# Altium integrated library NSC MiscPower.IntLib: 742 symbols (part 3 of 19)
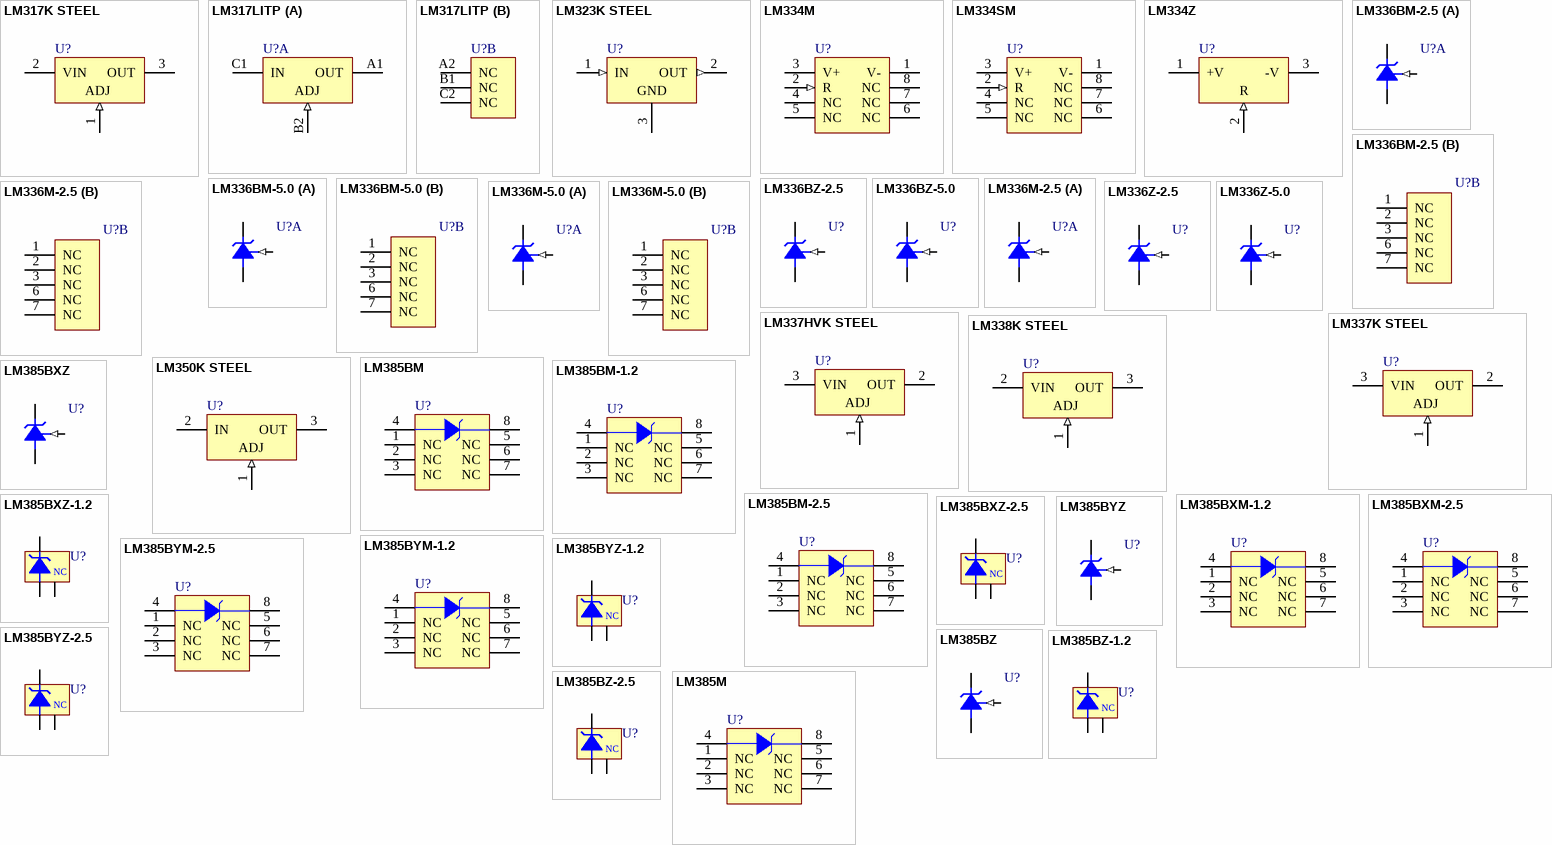
[diagram p27: symbols LM317K STEEL to LM385M]

## LM385BXZ
designator U?
Adjustable Micropower Voltage Reference; PartNumber: LM385BXZ; Manufacturer: National Semiconductor; CompType: MiscPower; PackageTopMarking: NSXYTT*LM385*BXZ; PowerWise: N; Published: 4-Dec-2008; DatasheetVersion: Jan-2008; PackageVersion: revG, Sep-2000; PackageReference: Z03A; Publisher: Altium Limited; PackageDescription: TO-92, Molded, 3 Lead; RoHS: Y; PinCount: 3; DigiKeyPartNumber: LM385BXZ-ND; Code_JEDEC: TO-226-AA; ComponentLink1Description: LM385-ADJ Datasheet; ComponentLink1URL: http://www.national.com/ds/LM/LM185-ADJ.pdf; ComponentLink2Description: LM385-ADJ Web Page; ComponentLink2URL: http://www.national.com/pf/LM/LM385-ADJ.html; ComponentLink3Description: Z03A Package Page; ComponentLink3URL: http://www.national.com/packaging/folders/z03a.html
footprint Z03A (TO, Flat Index; 3 In-Line, Axial Leads; Body Dia. 5mm; Leads 0.55 x 0.50 mm (max))
pins: 1 FB (in), 2 +V, 3 -V

## LM385BXZ-1.2
designator U?
Micropower Voltage Reference Diode; PartNumber: LM385BXZ-1.2; Manufacturer: National Semiconductor; CompType: MiscPower; PackageTopMarking: NSXYTT*385BX*Z-1.2; PowerWise: N; Published: 4-Dec-2008; DatasheetVersion: Jan-2008; PackageVersion: revG, Sep-2000; PackageReference: Z03A; Publisher: Altium Limited; PackageDescription: TO-92, Molded, 3 Lead; RoHS: Y; PinCount: 3; DigiKeyPartNumber: LM385BXZ-1.2-ND; Code_JEDEC: TO-226-AA; ComponentLink1Description: LM385-1.2 Datasheet; ComponentLink1URL: http://www.national.com/ds/LM/LM185-1.2.pdf; ComponentLink2Description: LM385-1.2 Web Page; ComponentLink2URL: http://www.national.com/pf/LM/LM385-1.2.html; ComponentLink3Description: Z03A Package Page; ComponentLink3URL: http://www.national.com/packaging/folders/z03a.html
footprint Z03A (TO, Flat Index; 3 In-Line, Axial Leads; Body Dia. 5mm; Leads 0.55 x 0.50 mm (max))
pins: 1 NC, 2 V+, 3 V-

## LM385BXZ-2.5
designator U?
Micropower Voltage Reference Diode; PartNumber: LM385BXZ-2.5; Manufacturer: National Semiconductor; CompType: MiscPower; PackageTopMarking: NSXYTT*385BX*Z-2.5; PowerWise: N; Published: 4-Dec-2008; DatasheetVersion: Jan-2008; PackageVersion: revG, Sep-2000; PackageReference: Z03A; Publisher: Altium Limited; PackageDescription: TO-92, Molded, 3 Lead; RoHS: O; PinCount: 3; DigiKeyPartNumber: LM385BXZ-2.5-ND; Code_JEDEC: TO-226-AA; ComponentLink1Description: LM385-2.5 Datasheet; ComponentLink1URL: http://www.national.com/ds/LM/LM185-2.5.pdf; ComponentLink2Description: LM385-2.5 Web Page; ComponentLink2URL: http://www.national.com/pf/LM/LM385-2.5.html; ComponentLink3Description: Z03A Package Page; ComponentLink3URL: http://www.national.com/packaging/folders/z03a.html
footprint Z03A (TO, Flat Index; 3 In-Line, Axial Leads; Body Dia. 5mm; Leads 0.55 x 0.50 mm (max))
pins: 1 NC, 2 V+, 3 V-

## LM385BYM-1.2
designator U?
Micropower Voltage Reference Diode; PartNumber: LM385BYM-1.2; Manufacturer: National Semiconductor; CompType: MiscPower; PackageTopMarking: NSZXTT*385BY*M1.2; PowerWise: N; Published: 4-Dec-2008; DatasheetVersion: Jan-2008; PackageVersion: revL, Sep-2006; PackageReference: M08A; Publisher: Altium Limited; PackageDescription: SOIC Narrow, 4.9 x 3.9 x 1.45mm, 8 Lead, 1.27mm Pitch; RoHS: Y; PinCount: 8; DigiKeyPartNumber: LM385BYM-1.2-ND; Code_JEDEC: MS-012-AA; Code_IPC: SOIC127P600-8; ComponentLink1Description: LM385-1.2 Datasheet; ComponentLink1URL: http://www.national.com/ds/LM/LM185-1.2.pdf; ComponentLink2Description: LM385-1.2 Web Page; ComponentLink2URL: http://www.national.com/pf/LM/LM385-1.2.html; ComponentLink3Description: M08A Package Page; ComponentLink3URL: http://www.national.com/packaging/folders/m08a.html
footprint M08A_N (SOIC, 8-Leads, Body 4.9x3.9mm, Pitch 1.27mm, IPC Medium Density)
footprint M08A_L (SOIC, 8-Leads, Body 4.9x3.9mm, Pitch 1.27mm, IPC High Density)
footprint M08A_M (SOIC, 8-Leads, Body 4.9x3.9mm, Pitch 1.27mm, IPC Low Density)
pins: 1 NC, 2 NC, 3 NC, 4 A, 5 NC, 6 NC, 7 NC, 8 K

## LM385BYM-2.5
designator U?
Micropower Voltage Reference Diode; PartNumber: LM385BYM-2.5; Manufacturer: National Semiconductor; CompType: MiscPower; PackageTopMarking: NSZXTT*385BY*M2.5; PowerWise: N; Published: 4-Dec-2008; DatasheetVersion: Jan-2008; PackageVersion: revL, Sep-2006; PackageReference: M08A; Publisher: Altium Limited; PackageDescription: SOIC Narrow, 4.9 x 3.9 x 1.45mm, 8 Lead, 1.27mm Pitch; RoHS: Y; PinCount: 8; DigiKeyPartNumber: LM385BYM-2.5-ND; Code_JEDEC: MS-012-AA; Code_IPC: SOIC127P600-8; ComponentLink1Description: LM385-2.5 Datasheet; ComponentLink1URL: http://www.national.com/ds/LM/LM185-2.5.pdf; ComponentLink2Description: LM385-2.5 Web Page; ComponentLink2URL: http://www.national.com/pf/LM/LM385-2.5.html; ComponentLink3Description: M08A Package Page; ComponentLink3URL: http://www.national.com/packaging/folders/m08a.html
footprint M08A_N (SOIC, 8-Leads, Body 4.9x3.9mm, Pitch 1.27mm, IPC Medium Density)
footprint M08A_L (SOIC, 8-Leads, Body 4.9x3.9mm, Pitch 1.27mm, IPC High Density)
footprint M08A_M (SOIC, 8-Leads, Body 4.9x3.9mm, Pitch 1.27mm, IPC Low Density)
pins: 1 NC, 2 NC, 3 NC, 4 A, 5 NC, 6 NC, 7 NC, 8 K

## LM385BYZ
designator U?
Adjustable Micropower Voltage Reference; PartNumber: LM385BYZ; Manufacturer: National Semiconductor; CompType: MiscPower; PackageTopMarking: NSXYTT*LM385*BYZ; PowerWise: N; Published: 4-Dec-2008; DatasheetVersion: Jan-2008; PackageVersion: revG, Sep-2000; PackageReference: Z03A; Publisher: Altium Limited; PackageDescription: TO-92, Molded, 3 Lead; RoHS: Y; PinCount: 3; DigiKeyPartNumber: LM385BYZ-ND; Code_JEDEC: TO-226-AA; ComponentLink1Description: LM385-ADJ Datasheet; ComponentLink1URL: http://www.national.com/ds/LM/LM185-ADJ.pdf; ComponentLink2Description: LM385-ADJ Web Page; ComponentLink2URL: http://www.national.com/pf/LM/LM385-ADJ.html; ComponentLink3Description: Z03A Package Page; ComponentLink3URL: http://www.national.com/packaging/folders/z03a.html
footprint Z03A (TO, Flat Index; 3 In-Line, Axial Leads; Body Dia. 5mm; Leads 0.55 x 0.50 mm (max))
pins: 1 FB (in), 2 +V, 3 -V

## LM385BYZ-1.2
designator U?
Micropower Voltage Reference Diode; PartNumber: LM385BYZ-1.2; Manufacturer: National Semiconductor; CompType: MiscPower; PackageTopMarking: NSXYTT*385BY*Z-1.2; PowerWise: N; Published: 4-Dec-2008; DatasheetVersion: Jan-2008; PackageVersion: revG, Sep-2000; PackageReference: Z03A; Publisher: Altium Limited; PackageDescription: TO-92, Molded, 3 Lead; RoHS: Y; PinCount: 3; DigiKeyPartNumber: LM385BYZ-1.2-ND; Code_JEDEC: TO-226-AA; ComponentLink1Description: LM385-1.2 Datasheet; ComponentLink1URL: http://www.national.com/ds/LM/LM185-1.2.pdf; ComponentLink2Description: LM385-1.2 Web Page; ComponentLink2URL: http://www.national.com/pf/LM/LM385-1.2.html; ComponentLink3Description: Z03A Package Page; ComponentLink3URL: http://www.national.com/packaging/folders/z03a.html
footprint Z03A (TO, Flat Index; 3 In-Line, Axial Leads; Body Dia. 5mm; Leads 0.55 x 0.50 mm (max))
pins: 1 NC, 2 V+, 3 V-

## LM385BYZ-2.5
designator U?
Micropower Voltage Reference Diode; PartNumber: LM385BYZ-2.5; Manufacturer: National Semiconductor; CompType: MiscPower; PackageTopMarking: NSXYTT*385BY*Z-2.5; PowerWise: N; Published: 4-Dec-2008; DatasheetVersion: Jan-2008; PackageVersion: revG, Sep-2000; PackageReference: Z03A; Publisher: Altium Limited; PackageDescription: TO-92, Molded, 3 Lead; RoHS: Y; PinCount: 3; DigiKeyPartNumber: LM385BYZ-2.5-ND; Code_JEDEC: TO-226-AA; ComponentLink1Description: LM385-2.5 Datasheet; ComponentLink1URL: http://www.national.com/ds/LM/LM185-2.5.pdf; ComponentLink2Description: LM385-2.5 Web Page; ComponentLink2URL: http://www.national.com/pf/LM/LM385-2.5.html; ComponentLink3Description: Z03A Package Page; ComponentLink3URL: http://www.national.com/packaging/folders/z03a.html
footprint Z03A (TO, Flat Index; 3 In-Line, Axial Leads; Body Dia. 5mm; Leads 0.55 x 0.50 mm (max))
pins: 1 NC, 2 V+, 3 V-

## LM385BZ
designator U?
Adjustable Micropower Voltage Reference; PartNumber: LM385BZ; Manufacturer: National Semiconductor; CompType: MiscPower; PackageTopMarking: NSXYTT*LM385*BZ; PowerWise: N; Published: 4-Dec-2008; DatasheetVersion: Jan-2008; PackageVersion: revG, Sep-2000; PackageReference: Z03A; Publisher: Altium Limited; PackageDescription: TO-92, Molded, 3 Lead; RoHS: Y; PinCount: 3; DigiKeyPartNumber: LM385BZ-ND; Code_JEDEC: TO-226-AA; ComponentLink1Description: LM385-ADJ Datasheet; ComponentLink1URL: http://www.national.com/ds/LM/LM185-ADJ.pdf; ComponentLink2Description: LM385-ADJ Web Page; ComponentLink2URL: http://www.national.com/pf/LM/LM385-ADJ.html; ComponentLink3Description: Z03A Package Page; ComponentLink3URL: http://www.national.com/packaging/folders/z03a.html
footprint Z03A (TO, Flat Index; 3 In-Line, Axial Leads; Body Dia. 5mm; Leads 0.55 x 0.50 mm (max))
pins: 1 FB (in), 2 +V, 3 -V

## LM385BZ-1.2
designator U?
Micropower Voltage Reference Diode; PartNumber: LM385BZ-1.2; Manufacturer: National Semiconductor; CompType: MiscPower; PackageTopMarking: NSXYTT*LM385*BZ1.2; PowerWise: N; Published: 4-Dec-2008; DatasheetVersion: Jan-2008; PackageVersion: revG, Sep-2000; PackageReference: Z03A; Publisher: Altium Limited; PackageDescription: TO-92, Molded, 3 Lead; RoHS: O; PinCount: 3; DigiKeyPartNumber: LM385BZ-1.2NS-ND; Code_JEDEC: TO-226-AA; ComponentLink1Description: LM385-1.2 Datasheet; ComponentLink1URL: http://www.national.com/ds/LM/LM185-1.2.pdf; ComponentLink2Description: LM385-1.2 Web Page; ComponentLink2URL: http://www.national.com/pf/LM/LM385-1.2.html; ComponentLink3Description: Z03A Package Page; ComponentLink3URL: http://www.national.com/packaging/folders/z03a.html
footprint Z03A (TO, Flat Index; 3 In-Line, Axial Leads; Body Dia. 5mm; Leads 0.55 x 0.50 mm (max))
pins: 1 NC, 2 V+, 3 V-

## LM385BZ-2.5
designator U?
Micropower Voltage Reference Diode; PartNumber: LM385BZ-2.5; Manufacturer: National Semiconductor; CompType: MiscPower; PackageTopMarking: NSXYTT*LM385*BZ2.5; PowerWise: N; Published: 4-Dec-2008; DatasheetVersion: Jan-2008; PackageVersion: revG, Sep-2000; PackageReference: Z03A; Publisher: Altium Limited; PackageDescription: TO-92, Molded, 3 Lead; RoHS: Y; PinCount: 3; DigiKeyPartNumber: LM385BZ-2.5NS-ND; Code_JEDEC: TO-226-AA; ComponentLink1Description: LM385-2.5 Datasheet; ComponentLink1URL: http://www.national.com/ds/LM/LM185-2.5.pdf; ComponentLink2Description: LM385-2.5 Web Page; ComponentLink2URL: http://www.national.com/pf/LM/LM385-2.5.html; ComponentLink3Description: Z03A Package Page; ComponentLink3URL: http://www.national.com/packaging/folders/z03a.html
footprint Z03A (TO, Flat Index; 3 In-Line, Axial Leads; Body Dia. 5mm; Leads 0.55 x 0.50 mm (max))
pins: 1 NC, 2 V+, 3 V-

## LM385M
designator U?
Adjustable Micropower Voltage Reference; PartNumber: LM385M; Manufacturer: National Semiconductor; CompType: MiscPower; PackageTopMarking: NSZXTT*LM385*M; PowerWise: N; Published: 4-Dec-2008; DatasheetVersion: Jan-2008; PackageVersion: revL, Sep-2006; PackageReference: M08A; Publisher: Altium Limited; PackageDescription: SOIC Narrow, 4.9 x 3.9 x 1.45mm, 8 Lead, 1.27mm Pitch; RoHS: O; PinCount: 8; DigiKeyPartNumber: LM385M-ND; Code_JEDEC: MS-012-AA; Code_IPC: SOIC127P600-8; ComponentLink1Description: LM385-ADJ Datasheet; ComponentLink1URL: http://www.national.com/ds/LM/LM185-ADJ.pdf; ComponentLink2Description: LM385-ADJ Web Page; ComponentLink2URL: http://www.national.com/pf/LM/LM385-ADJ.html; ComponentLink3Description: M08A Package Page; ComponentLink3URL: http://www.national.com/packaging/folders/m08a.html
footprint M08A_N (SOIC, 8-Leads, Body 4.9x3.9mm, Pitch 1.27mm, IPC Medium Density)
footprint M08A_L (SOIC, 8-Leads, Body 4.9x3.9mm, Pitch 1.27mm, IPC High Density)
footprint M08A_M (SOIC, 8-Leads, Body 4.9x3.9mm, Pitch 1.27mm, IPC Low Density)
pins: 1 NC, 2 NC, 3 NC, 4 A, 5 NC, 6 NC, 7 NC, 8 K

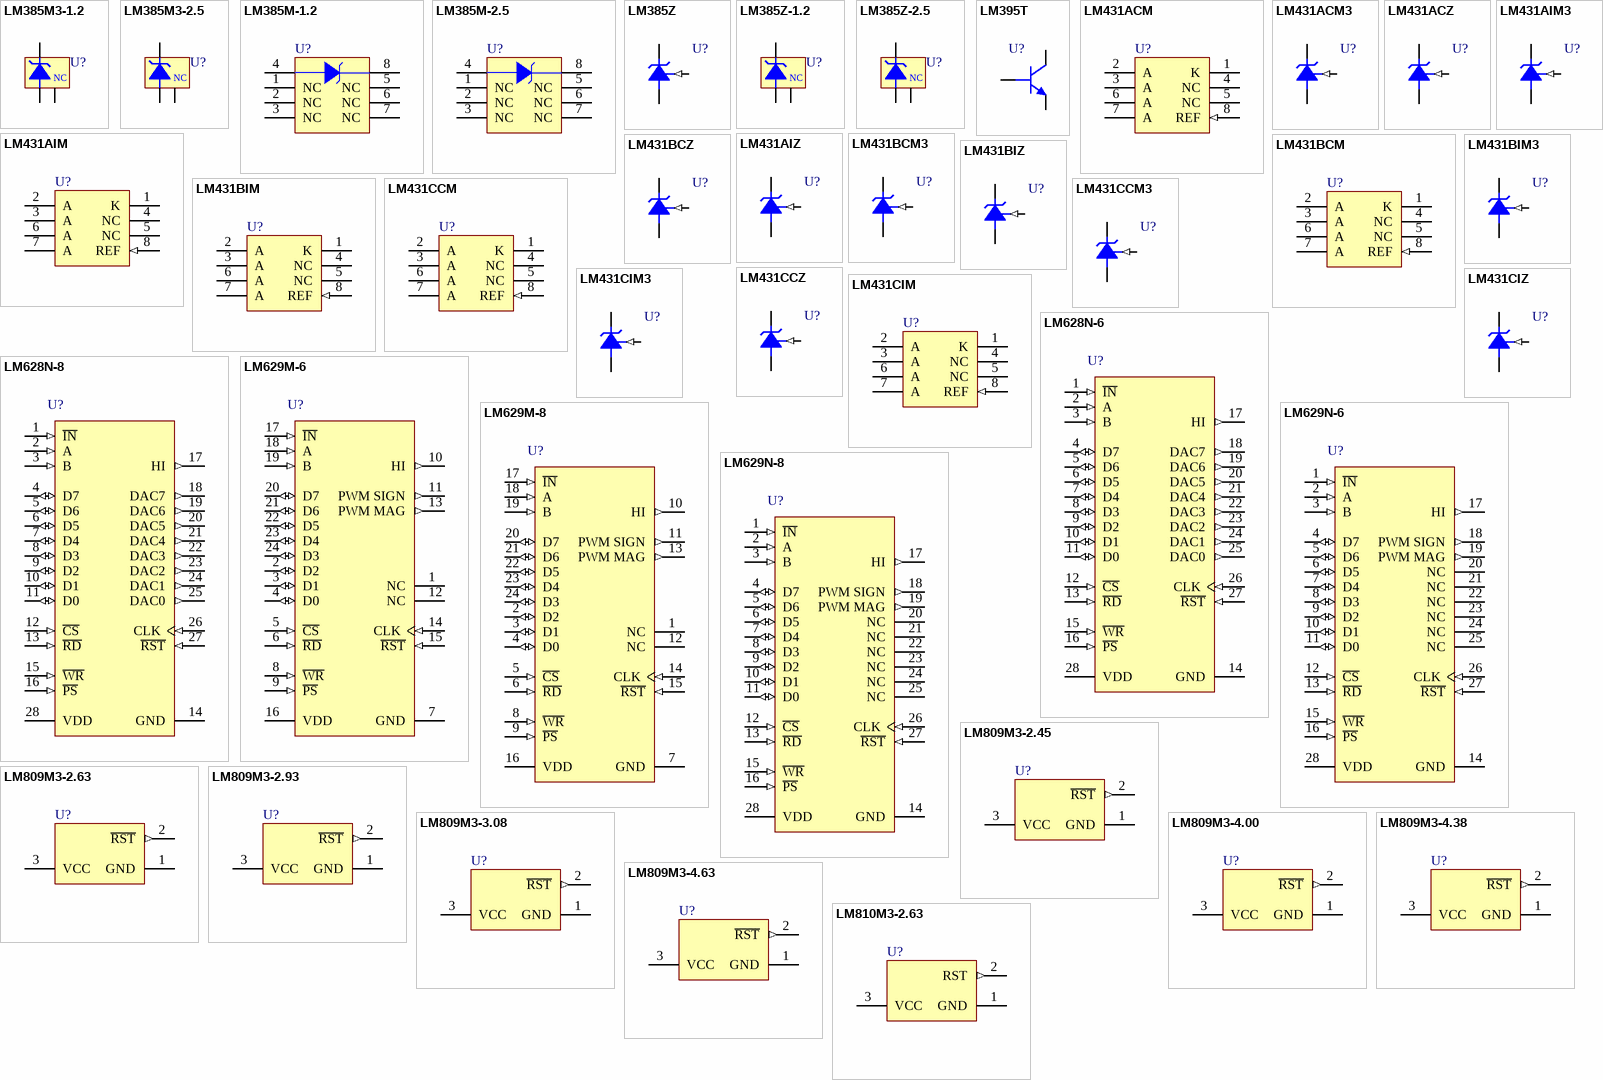
[diagram p3: symbols LM385M3-1.2 to LM810M3-2.63]

## LM385M3-1.2
designator U?
Micropower Voltage Reference Diode; PartNumber: LM385M3-1.2; Manufacturer: National Semiconductor; CompType: MiscPower; PackageTopMarking: R11*XTT; PowerWise: N; Published: 4-Dec-2008; DatasheetVersion: Jan-2008; PackageVersion: revB, Mar-2003; PackageReference: MF03A; Publisher: Altium Limited; PackageDescription: Molded SOT-23, .115 x .051 x .037in Body, 3 Lead, .075 in Pitch; RoHS: O; PinCount: 3; ComponentLink1Description: LM385-1.2 Datasheet; ComponentLink1URL: http://www.national.com/ds/LM/LM185-1.2.pdf; ComponentLink2Description: LM385-1.2 Web Page; ComponentLink2URL: http://www.national.com/pf/LM/LM385-1.2.html; ComponentLink3Description: MF03A Package Page; ComponentLink3URL: http://www.national.com/packaging/folders/mf03a.html
footprint MF03A_N (SOT23, 3-Leads, Body 2.9x1.3mm, Pitch 0.95mm, Lead Span 2.4mm, IPC Medium Density)
footprint MF03A_L (SOT23, 3-Leads, Body 2.9x1.3mm, Pitch 0.95mm, Lead Span 2.4mm, IPC High Density)
footprint MF03A_M (SOT23, 3-Leads, Body 2.9x1.3mm, Pitch 0.95mm, Lead Span 2.4mm, IPC Low Density)
pins: 1 V+, 2 V-, 3 NC

## LM385M3-2.5
designator U?
Micropower Voltage Reference Diode; PartNumber: LM385M3-2.5; Manufacturer: National Semiconductor; CompType: MiscPower; PackageTopMarking: R12*XTT; PowerWise: N; Published: 4-Dec-2008; DatasheetVersion: Jan-2008; PackageVersion: revB, Mar-2003; PackageReference: MF03A; Publisher: Altium Limited; PackageDescription: Molded SOT-23, .115 x .051 x .037in Body, 3 Lead, .075 in Pitch; RoHS: O; PinCount: 3; DigiKeyPartNumber: LM385M3-2.5CT-ND; ComponentLink1Description: LM385-2.5 Datasheet; ComponentLink1URL: http://www.national.com/ds/LM/LM185-2.5.pdf; ComponentLink2Description: LM385-2.5 Web Page; ComponentLink2URL: http://www.national.com/pf/LM/LM385-2.5.html; ComponentLink3Description: MF03A Package Page; ComponentLink3URL: http://www.national.com/packaging/folders/mf03a.html
footprint MF03A_N (SOT23, 3-Leads, Body 2.9x1.3mm, Pitch 0.95mm, Lead Span 2.4mm, IPC Medium Density)
footprint MF03A_L (SOT23, 3-Leads, Body 2.9x1.3mm, Pitch 0.95mm, Lead Span 2.4mm, IPC High Density)
footprint MF03A_M (SOT23, 3-Leads, Body 2.9x1.3mm, Pitch 0.95mm, Lead Span 2.4mm, IPC Low Density)
pins: 1 V+, 2 V-, 3 NC

## LM385M-1.2
designator U?
Micropower Voltage Reference Diode; PartNumber: LM385M-1.2; Manufacturer: National Semiconductor; CompType: MiscPower; PackageTopMarking: NSZXTT*LM385*M1.2; PowerWise: N; Published: 4-Dec-2008; DatasheetVersion: Jan-2008; PackageVersion: revL, Sep-2006; PackageReference: M08A; Publisher: Altium Limited; PackageDescription: SOIC Narrow, 4.9 x 3.9 x 1.45mm, 8 Lead, 1.27mm Pitch; RoHS: O; PinCount: 8; DigiKeyPartNumber: LM385M-1.2-ND; Code_JEDEC: MS-012-AA; Code_IPC: SOIC127P600-8; ComponentLink1Description: LM385-1.2 Datasheet; ComponentLink1URL: http://www.national.com/ds/LM/LM185-1.2.pdf; ComponentLink2Description: LM385-1.2 Web Page; ComponentLink2URL: http://www.national.com/pf/LM/LM385-1.2.html; ComponentLink3Description: M08A Package Page; ComponentLink3URL: http://www.national.com/packaging/folders/m08a.html
footprint M08A_N (SOIC, 8-Leads, Body 4.9x3.9mm, Pitch 1.27mm, IPC Medium Density)
footprint M08A_L (SOIC, 8-Leads, Body 4.9x3.9mm, Pitch 1.27mm, IPC High Density)
footprint M08A_M (SOIC, 8-Leads, Body 4.9x3.9mm, Pitch 1.27mm, IPC Low Density)
pins: 1 NC, 2 NC, 3 NC, 4 A, 5 NC, 6 NC, 7 NC, 8 K

## LM385M-2.5
designator U?
Micropower Voltage Reference Diode; PartNumber: LM385M-2.5; Manufacturer: National Semiconductor; CompType: MiscPower; PackageTopMarking: NSZXTT*LM385*M2.5; PowerWise: N; Published: 4-Dec-2008; DatasheetVersion: Jan-2008; PackageVersion: revL, Sep-2006; PackageReference: M08A; Publisher: Altium Limited; PackageDescription: SOIC Narrow, 4.9 x 3.9 x 1.45mm, 8 Lead, 1.27mm Pitch; RoHS: O; PinCount: 8; DigiKeyPartNumber: LM385M-2.5-ND; Code_JEDEC: MS-012-AA; Code_IPC: SOIC127P600-8; ComponentLink1Description: LM385-2.5 Datasheet; ComponentLink1URL: http://www.national.com/ds/LM/LM185-2.5.pdf; ComponentLink2Description: LM385-2.5 Web Page; ComponentLink2URL: http://www.national.com/pf/LM/LM385-2.5.html; ComponentLink3Description: M08A Package Page; ComponentLink3URL: http://www.national.com/packaging/folders/m08a.html
footprint M08A_N (SOIC, 8-Leads, Body 4.9x3.9mm, Pitch 1.27mm, IPC Medium Density)
footprint M08A_L (SOIC, 8-Leads, Body 4.9x3.9mm, Pitch 1.27mm, IPC High Density)
footprint M08A_M (SOIC, 8-Leads, Body 4.9x3.9mm, Pitch 1.27mm, IPC Low Density)
pins: 1 NC, 2 NC, 3 NC, 4 A, 5 NC, 6 NC, 7 NC, 8 K

## LM385Z
designator U?
Adjustable Micropower Voltage Reference; PartNumber: LM385Z; Manufacturer: National Semiconductor; CompType: MiscPower; PackageTopMarking: NSXYTT*LM385*Z; PowerWise: N; Published: 4-Dec-2008; DatasheetVersion: Jan-2008; PackageVersion: revG, Sep-2000; PackageReference: Z03A; Publisher: Altium Limited; PackageDescription: TO-92, Molded, 3 Lead; RoHS: O; PinCount: 3; DigiKeyPartNumber: LM385Z-ND; Code_JEDEC: TO-226-AA; ComponentLink1Description: LM385-ADJ Datasheet; ComponentLink1URL: http://www.national.com/ds/LM/LM185-ADJ.pdf; ComponentLink2Description: LM385-ADJ Web Page; ComponentLink2URL: http://www.national.com/pf/LM/LM385-ADJ.html; ComponentLink3Description: Z03A Package Page; ComponentLink3URL: http://www.national.com/packaging/folders/z03a.html
footprint Z03A (TO, Flat Index; 3 In-Line, Axial Leads; Body Dia. 5mm; Leads 0.55 x 0.50 mm (max))
pins: 1 FB (in), 2 +V, 3 -V

## LM385Z-1.2
designator U?
Micropower Voltage Reference Diode; PartNumber: LM385Z-1.2; Manufacturer: National Semiconductor; CompType: MiscPower; PackageTopMarking: NSXYTT*LM385*Z-1.2; PowerWise: N; Published: 4-Dec-2008; DatasheetVersion: Jan-2008; PackageVersion: revG, Sep-2000; PackageReference: Z03A; Publisher: Altium Limited; PackageDescription: TO-92, Molded, 3 Lead; RoHS: O; PinCount: 3; DigiKeyPartNumber: LM385Z-1.2NS-ND; Code_JEDEC: TO-226-AA; ComponentLink1Description: LM385-1.2 Datasheet; ComponentLink1URL: http://www.national.com/ds/LM/LM185-1.2.pdf; ComponentLink2Description: LM385-1.2 Web Page; ComponentLink2URL: http://www.national.com/pf/LM/LM385-1.2.html; ComponentLink3Description: Z03A Package Page; ComponentLink3URL: http://www.national.com/packaging/folders/z03a.html
footprint Z03A (TO, Flat Index; 3 In-Line, Axial Leads; Body Dia. 5mm; Leads 0.55 x 0.50 mm (max))
pins: 1 NC, 2 V+, 3 V-

## LM385Z-2.5
designator U?
Micropower Voltage Reference Diode; PartNumber: LM385Z-2.5; Manufacturer: National Semiconductor; CompType: MiscPower; PackageTopMarking: NSXYTT*LM385*Z2.5; PowerWise: N; Published: 4-Dec-2008; DatasheetVersion: Jan-2008; PackageVersion: revG, Sep-2000; PackageReference: Z03A; Publisher: Altium Limited; PackageDescription: TO-92, Molded, 3 Lead; RoHS: O; PinCount: 3; DigiKeyPartNumber: LM385Z-2.5NS-ND; Code_JEDEC: TO-226-AA; ComponentLink1Description: LM385-2.5 Datasheet; ComponentLink1URL: http://www.national.com/ds/LM/LM185-2.5.pdf; ComponentLink2Description: LM385-2.5 Web Page; ComponentLink2URL: http://www.national.com/pf/LM/LM385-2.5.html; ComponentLink3Description: Z03A Package Page; ComponentLink3URL: http://www.national.com/packaging/folders/z03a.html
footprint Z03A (TO, Flat Index; 3 In-Line, Axial Leads; Body Dia. 5mm; Leads 0.55 x 0.50 mm (max))
pins: 1 NC, 2 V+, 3 V-

## LM395T
designator U?
Ultra Reliable Power Transistor; PartNumber: LM395T; Manufacturer: National Semiconductor; CompType: MiscPower; PackageTopMarking: NSUZXYTTE#*LM395T; PowerWise: N; Published: 4-Dec-2008; DatasheetVersion: Jul-2000; PackageVersion: revL, Jan-1992; PackageReference: T03B; Publisher: Altium Limited; PackageDescription: TO-220, Molded, 3 Lead, Straight; RoHS: O; PinCount: 3; DigiKeyPartNumber: LM395T-ND; ComponentLink1Description: LM395 Datasheet; ComponentLink1URL: http://www.national.com/ds/LM/LM395.pdf; ComponentLink2Description: LM395 Web Page; ComponentLink2URL: http://www.national.com/pf/LM/LM395.html; ComponentLink3Description: T03B Package Page; ComponentLink3URL: http://www.national.com/packaging/folders/t03b.html
footprint T03B (TO, Thru-Hole, Vertical, Heatsink Mounted; 3 In-Line Leads; Pitch 2.54 mm)
pins: 1 B, 2 E, 3 C

## LM431ACM
designator U?
Adjustable Precision Zener Shunt Regulator; PartNumber: LM431ACM; Manufacturer: National Semiconductor; CompType: MiscPower; PackageTopMarking: NSZXTT*LM431*ACM; PowerWise: N; Published: 4-Dec-2008; DatasheetVersion: Mar-2005; PackageVersion: revL, Sep-2006; PackageReference: M08A; Publisher: Altium Limited; PackageDescription: SOIC Narrow, 4.9 x 3.9 x 1.45mm, 8 Lead, 1.27mm Pitch; RoHS: O; PinCount: 8; DigiKeyPartNumber: LM431ACM-ND; Code_JEDEC: MS-012-AA; Code_IPC: SOIC127P600-8; ComponentLink1Description: LM431 Datasheet; ComponentLink1URL: http://www.national.com/ds/LM/LM431.pdf; ComponentLink2Description: LM431 Web Page; ComponentLink2URL: http://www.national.com/pf/LM/LM431.html; ComponentLink3Description: M08A Package Page; ComponentLink3URL: http://www.national.com/packaging/folders/m08a.html
footprint M08A_N (SOIC, 8-Leads, Body 4.9x3.9mm, Pitch 1.27mm, IPC Medium Density)
footprint M08A_L (SOIC, 8-Leads, Body 4.9x3.9mm, Pitch 1.27mm, IPC High Density)
footprint M08A_M (SOIC, 8-Leads, Body 4.9x3.9mm, Pitch 1.27mm, IPC Low Density)
pins: 1 K, 2 A, 3 A, 4 NC, 5 NC, 6 A, 7 A, 8 REF (in)

## LM431ACM3
designator U?
Adjustable Precision Zener Shunt Regulator; PartNumber: LM431ACM3; Manufacturer: National Semiconductor; CompType: MiscPower; PackageTopMarking: N1F*XTT; PowerWise: N; Published: 4-Dec-2008; DatasheetVersion: Mar-2005; PackageVersion: revB, Mar-2003; PackageReference: MF03A; Publisher: Altium Limited; PackageDescription: Molded SOT-23, .115 x .051 x .037in Body, 3 Lead, .075 in Pitch; RoHS: O; PinCount: 3; DigiKeyPartNumber: LM431ACM3-ND; ComponentLink1Description: LM431 Datasheet; ComponentLink1URL: http://www.national.com/ds/LM/LM431.pdf; ComponentLink2Description: LM431 Web Page; ComponentLink2URL: http://www.national.com/pf/LM/LM431.html; ComponentLink3Description: MF03A Package Page; ComponentLink3URL: http://www.national.com/packaging/folders/mf03a.html
footprint MF03A_N (SOT23, 3-Leads, Body 2.9x1.3mm, Pitch 0.95mm, Lead Span 2.4mm, IPC Medium Density)
footprint MF03A_L (SOT23, 3-Leads, Body 2.9x1.3mm, Pitch 0.95mm, Lead Span 2.4mm, IPC High Density)
footprint MF03A_M (SOT23, 3-Leads, Body 2.9x1.3mm, Pitch 0.95mm, Lead Span 2.4mm, IPC Low Density)
pins: 1 K, 2 REF (in), 3 A

## LM431ACZ
designator U?
Adjustable Precision Zener Shunt Regulator; PartNumber: LM431ACZ; Manufacturer: National Semiconductor; CompType: MiscPower; PackageTopMarking: NSXYTT*LM431*ACZ; PowerWise: N; Published: 4-Dec-2008; DatasheetVersion: Mar-2005; PackageVersion: revG, Sep-2000; PackageReference: Z03A; Publisher: Altium Limited; PackageDescription: TO-92, Molded, 3 Lead; RoHS: O; PinCount: 3; DigiKeyPartNumber: LM431ACZ-ND; Code_JEDEC: TO-226-AA; ComponentLink1Description: LM431 Datasheet; ComponentLink1URL: http://www.national.com/ds/LM/LM431.pdf; ComponentLink2Description: LM431 Web Page; ComponentLink2URL: http://www.national.com/pf/LM/LM431.html; ComponentLink3Description: Z03A Package Page; ComponentLink3URL: http://www.national.com/packaging/folders/z03a.html
footprint Z03A (TO, Flat Index; 3 In-Line, Axial Leads; Body Dia. 5mm; Leads 0.55 x 0.50 mm (max))
pins: 1 REF (in), 2 A, 3 K

## LM431AIM
designator U?
Adjustable Precision Zener Shunt Regulator; PartNumber: LM431AIM; Manufacturer: National Semiconductor; CompType: MiscPower; PackageTopMarking: NSZXTT*LM431*AIM; PowerWise: N; Published: 4-Dec-2008; DatasheetVersion: Mar-2005; PackageVersion: revL, Sep-2006; PackageReference: M08A; Publisher: Altium Limited; PackageDescription: SOIC Narrow, 4.9 x 3.9 x 1.45mm, 8 Lead, 1.27mm Pitch; RoHS: O; PinCount: 8; DigiKeyPartNumber: LM431AIM-ND; Code_JEDEC: MS-012-AA; Code_IPC: SOIC127P600-8; ComponentLink1Description: LM431 Datasheet; ComponentLink1URL: http://www.national.com/ds/LM/LM431.pdf; ComponentLink2Description: LM431 Web Page; ComponentLink2URL: http://www.national.com/pf/LM/LM431.html; ComponentLink3Description: M08A Package Page; ComponentLink3URL: http://www.national.com/packaging/folders/m08a.html
footprint M08A_N (SOIC, 8-Leads, Body 4.9x3.9mm, Pitch 1.27mm, IPC Medium Density)
footprint M08A_L (SOIC, 8-Leads, Body 4.9x3.9mm, Pitch 1.27mm, IPC High Density)
footprint M08A_M (SOIC, 8-Leads, Body 4.9x3.9mm, Pitch 1.27mm, IPC Low Density)
pins: 1 K, 2 A, 3 A, 4 NC, 5 NC, 6 A, 7 A, 8 REF (in)

## LM431AIM3
designator U?
Adjustable Precision Zener Shunt Regulator; PartNumber: LM431AIM3; Manufacturer: National Semiconductor; CompType: MiscPower; PackageTopMarking: N1E*XTT; PowerWise: N; Published: 4-Dec-2008; DatasheetVersion: Mar-2005; PackageVersion: revB, Mar-2003; PackageReference: MF03A; Publisher: Altium Limited; PackageDescription: Molded SOT-23, .115 x .051 x .037in Body, 3 Lead, .075 in Pitch; RoHS: O; PinCount: 3; DigiKeyPartNumber: LM431AIM3CT-ND; ComponentLink1Description: LM431 Datasheet; ComponentLink1URL: http://www.national.com/ds/LM/LM431.pdf; ComponentLink2Description: LM431 Web Page; ComponentLink2URL: http://www.national.com/pf/LM/LM431.html; ComponentLink3Description: MF03A Package Page; ComponentLink3URL: http://www.national.com/packaging/folders/mf03a.html
footprint MF03A_N (SOT23, 3-Leads, Body 2.9x1.3mm, Pitch 0.95mm, Lead Span 2.4mm, IPC Medium Density)
footprint MF03A_L (SOT23, 3-Leads, Body 2.9x1.3mm, Pitch 0.95mm, Lead Span 2.4mm, IPC High Density)
footprint MF03A_M (SOT23, 3-Leads, Body 2.9x1.3mm, Pitch 0.95mm, Lead Span 2.4mm, IPC Low Density)
pins: 1 K, 2 REF (in), 3 A

## LM431AIZ
designator U?
Adjustable Precision Zener Shunt Regulator; PartNumber: LM431AIZ; Manufacturer: National Semiconductor; CompType: MiscPower; PackageTopMarking: NSXYTT*LM431*AIZ; PowerWise: N; Published: 4-Dec-2008; DatasheetVersion: Mar-2005; PackageVersion: revG, Sep-2000; PackageReference: Z03A; Publisher: Altium Limited; PackageDescription: TO-92, Molded, 3 Lead; RoHS: O; PinCount: 3; DigiKeyPartNumber: LM431AIZ-ND; Code_JEDEC: TO-226-AA; ComponentLink1Description: LM431 Datasheet; ComponentLink1URL: http://www.national.com/ds/LM/LM431.pdf; ComponentLink2Description: LM431 Web Page; ComponentLink2URL: http://www.national.com/pf/LM/LM431.html; ComponentLink3Description: Z03A Package Page; ComponentLink3URL: http://www.national.com/packaging/folders/z03a.html
footprint Z03A (TO, Flat Index; 3 In-Line, Axial Leads; Body Dia. 5mm; Leads 0.55 x 0.50 mm (max))
pins: 1 REF (in), 2 A, 3 K

## LM431BCM
designator U?
Adjustable Precision Zener Shunt Regulator; PartNumber: LM431BCM; Manufacturer: National Semiconductor; CompType: MiscPower; PackageTopMarking: NSZXTT*431*BCM; PowerWise: N; Published: 4-Dec-2008; DatasheetVersion: Mar-2005; PackageVersion: revL, Sep-2006; PackageReference: M08A; Publisher: Altium Limited; PackageDescription: SOIC Narrow, 4.9 x 3.9 x 1.45mm, 8 Lead, 1.27mm Pitch; RoHS: O; PinCount: 8; DigiKeyPartNumber: LM431BCM-ND; Code_JEDEC: MS-012-AA; Code_IPC: SOIC127P600-8; ComponentLink1Description: LM431 Datasheet; ComponentLink1URL: http://www.national.com/ds/LM/LM431.pdf; ComponentLink2Description: LM431 Web Page; ComponentLink2URL: http://www.national.com/pf/LM/LM431.html; ComponentLink3Description: M08A Package Page; ComponentLink3URL: http://www.national.com/packaging/folders/m08a.html
footprint M08A_N (SOIC, 8-Leads, Body 4.9x3.9mm, Pitch 1.27mm, IPC Medium Density)
footprint M08A_L (SOIC, 8-Leads, Body 4.9x3.9mm, Pitch 1.27mm, IPC High Density)
footprint M08A_M (SOIC, 8-Leads, Body 4.9x3.9mm, Pitch 1.27mm, IPC Low Density)
pins: 1 K, 2 A, 3 A, 4 NC, 5 NC, 6 A, 7 A, 8 REF (in)

## LM431BCM3
designator U?
Adjustable Precision Zener Shunt Regulator; PartNumber: LM431BCM3; Manufacturer: National Semiconductor; CompType: MiscPower; PackageTopMarking: N1D*XTT; PowerWise: N; Published: 4-Dec-2008; DatasheetVersion: Mar-2005; PackageVersion: revB, Mar-2003; PackageReference: MF03A; Publisher: Altium Limited; PackageDescription: Molded SOT-23, .115 x .051 x .037in Body, 3 Lead, .075 in Pitch; RoHS: O; PinCount: 3; DigiKeyPartNumber: LM431BCM3CT-ND; ComponentLink1Description: LM431 Datasheet; ComponentLink1URL: http://www.national.com/ds/LM/LM431.pdf; ComponentLink2Description: LM431 Web Page; ComponentLink2URL: http://www.national.com/pf/LM/LM431.html; ComponentLink3Description: MF03A Package Page; ComponentLink3URL: http://www.national.com/packaging/folders/mf03a.html
footprint MF03A_N (SOT23, 3-Leads, Body 2.9x1.3mm, Pitch 0.95mm, Lead Span 2.4mm, IPC Medium Density)
footprint MF03A_L (SOT23, 3-Leads, Body 2.9x1.3mm, Pitch 0.95mm, Lead Span 2.4mm, IPC High Density)
footprint MF03A_M (SOT23, 3-Leads, Body 2.9x1.3mm, Pitch 0.95mm, Lead Span 2.4mm, IPC Low Density)
pins: 1 K, 2 REF (in), 3 A

## LM431BCZ
designator U?
Adjustable Precision Zener Shunt Regulator; PartNumber: LM431BCZ; Manufacturer: National Semiconductor; CompType: MiscPower; PackageTopMarking: NSXYTT*LM431*BCZ; PowerWise: N; Published: 4-Dec-2008; DatasheetVersion: Mar-2005; PackageVersion: revG, Sep-2000; PackageReference: Z03A; Publisher: Altium Limited; PackageDescription: TO-92, Molded, 3 Lead; RoHS: O; PinCount: 3; DigiKeyPartNumber: LM431BCZ-ND; Code_JEDEC: TO-226-AA; ComponentLink1Description: LM431 Datasheet; ComponentLink1URL: http://www.national.com/ds/LM/LM431.pdf; ComponentLink2Description: LM431 Web Page; ComponentLink2URL: http://www.national.com/pf/LM/LM431.html; ComponentLink3Description: Z03A Package Page; ComponentLink3URL: http://www.national.com/packaging/folders/z03a.html
footprint Z03A (TO, Flat Index; 3 In-Line, Axial Leads; Body Dia. 5mm; Leads 0.55 x 0.50 mm (max))
pins: 1 REF (in), 2 A, 3 K

## LM431BIM
designator U?
Adjustable Precision Zener Shunt Regulator; PartNumber: LM431BIM; Manufacturer: National Semiconductor; CompType: MiscPower; PackageTopMarking: NSZXTT*431*BIM; PowerWise: N; Published: 4-Dec-2008; DatasheetVersion: Mar-2005; PackageVersion: revL, Sep-2006; PackageReference: M08A; Publisher: Altium Limited; PackageDescription: SOIC Narrow, 4.9 x 3.9 x 1.45mm, 8 Lead, 1.27mm Pitch; RoHS: O; PinCount: 8; DigiKeyPartNumber: LM431BIM-ND; Code_JEDEC: MS-012-AA; Code_IPC: SOIC127P600-8; ComponentLink1Description: LM431 Datasheet; ComponentLink1URL: http://www.national.com/ds/LM/LM431.pdf; ComponentLink2Description: LM431 Web Page; ComponentLink2URL: http://www.national.com/pf/LM/LM431.html; ComponentLink3Description: M08A Package Page; ComponentLink3URL: http://www.national.com/packaging/folders/m08a.html
footprint M08A_N (SOIC, 8-Leads, Body 4.9x3.9mm, Pitch 1.27mm, IPC Medium Density)
footprint M08A_L (SOIC, 8-Leads, Body 4.9x3.9mm, Pitch 1.27mm, IPC High Density)
footprint M08A_M (SOIC, 8-Leads, Body 4.9x3.9mm, Pitch 1.27mm, IPC Low Density)
pins: 1 K, 2 A, 3 A, 4 NC, 5 NC, 6 A, 7 A, 8 REF (in)

## LM431BIM3
designator U?
Adjustable Precision Zener Shunt Regulator; PartNumber: LM431BIM3; Manufacturer: National Semiconductor; CompType: MiscPower; PackageTopMarking: N1C*XTT; PowerWise: N; Published: 4-Dec-2008; DatasheetVersion: Mar-2005; PackageVersion: revB, Mar-2003; PackageReference: MF03A; Publisher: Altium Limited; PackageDescription: Molded SOT-23, .115 x .051 x .037in Body, 3 Lead, .075 in Pitch; RoHS: O; PinCount: 3; DigiKeyPartNumber: LM431BIM3CT-ND; ComponentLink1Description: LM431 Datasheet; ComponentLink1URL: http://www.national.com/ds/LM/LM431.pdf; ComponentLink2Description: LM431 Web Page; ComponentLink2URL: http://www.national.com/pf/LM/LM431.html; ComponentLink3Description: MF03A Package Page; ComponentLink3URL: http://www.national.com/packaging/folders/mf03a.html
footprint MF03A_N (SOT23, 3-Leads, Body 2.9x1.3mm, Pitch 0.95mm, Lead Span 2.4mm, IPC Medium Density)
footprint MF03A_L (SOT23, 3-Leads, Body 2.9x1.3mm, Pitch 0.95mm, Lead Span 2.4mm, IPC High Density)
footprint MF03A_M (SOT23, 3-Leads, Body 2.9x1.3mm, Pitch 0.95mm, Lead Span 2.4mm, IPC Low Density)
pins: 1 K, 2 REF (in), 3 A

## LM431BIZ
designator U?
Adjustable Precision Zener Shunt Regulator; PartNumber: LM431BIZ; Manufacturer: National Semiconductor; CompType: MiscPower; PackageTopMarking: NSXYTT*LM431*BIZ; Published: 4-Dec-2008; DatasheetVersion: Mar-2005; PackageVersion: revG, Sep-2000; PackageReference: Z03A; Publisher: Altium Limited; PackageDescription: TO-92, Molded, 3 Lead; RoHS: Y; PinCount: 3; DigiKeyPartNumber: LM431BIZ-ND; Code_JEDEC: TO-226-AA; ComponentLink1Description: LM431 Datasheet; ComponentLink1URL: http://www.national.com/ds/LM/LM431.pdf; ComponentLink2Description: LM431 Web Page; ComponentLink2URL: http://www.national.com/pf/LM/LM431.html; ComponentLink3Description: Z03A Package Page; ComponentLink3URL: http://www.national.com/packaging/folders/z03a.html
footprint Z03A (TO, Flat Index; 3 In-Line, Axial Leads; Body Dia. 5mm; Leads 0.55 x 0.50 mm (max))
pins: 1 REF (in), 2 A, 3 K

## LM431CCM
designator U?
Adjustable Precision Zener Shunt Regulator; PartNumber: LM431CCM; Manufacturer: National Semiconductor; CompType: MiscPower; PackageTopMarking: NSZXTT*431*CCM; Published: 4-Dec-2008; DatasheetVersion: Mar-2005; PackageVersion: revL, Sep-2006; PackageReference: M08A; Publisher: Altium Limited; PackageDescription: SOIC Narrow, 4.9 x 3.9 x 1.45mm, 8 Lead, 1.27mm Pitch; RoHS: Y; PinCount: 8; DigiKeyPartNumber: LM431CCM-ND; Code_JEDEC: MS-012-AA; Code_IPC: SOIC127P600-8; ComponentLink1Description: LM431 Datasheet; ComponentLink1URL: http://www.national.com/ds/LM/LM431.pdf; ComponentLink2Description: LM431 Web Page; ComponentLink2URL: http://www.national.com/pf/LM/LM431.html; ComponentLink3Description: M08A Package Page; ComponentLink3URL: http://www.national.com/packaging/folders/m08a.html
footprint M08A_N (SOIC, 8-Leads, Body 4.9x3.9mm, Pitch 1.27mm, IPC Medium Density)
footprint M08A_L (SOIC, 8-Leads, Body 4.9x3.9mm, Pitch 1.27mm, IPC High Density)
footprint M08A_M (SOIC, 8-Leads, Body 4.9x3.9mm, Pitch 1.27mm, IPC Low Density)
pins: 1 K, 2 A, 3 A, 4 NC, 5 NC, 6 A, 7 A, 8 REF (in)

## LM431CCM3
designator U?
Adjustable Precision Zener Shunt Regulator; PartNumber: LM431CCM3; Manufacturer: National Semiconductor; CompType: MiscPower; PackageTopMarking: N1B*XTT; PowerWise: N; Published: 4-Dec-2008; DatasheetVersion: Mar-2005; PackageVersion: revB, Mar-2003; PackageReference: MF03A; Publisher: Altium Limited; PackageDescription: Molded SOT-23, .115 x .051 x .037in Body, 3 Lead, .075 in Pitch; RoHS: O; PinCount: 3; DigiKeyPartNumber: LM431CCM3CT-ND; ComponentLink1Description: LM431 Datasheet; ComponentLink1URL: http://www.national.com/ds/LM/LM431.pdf; ComponentLink2Description: LM431 Web Page; ComponentLink2URL: http://www.national.com/pf/LM/LM431.html; ComponentLink3Description: MF03A Package Page; ComponentLink3URL: http://www.national.com/packaging/folders/mf03a.html
footprint MF03A_N (SOT23, 3-Leads, Body 2.9x1.3mm, Pitch 0.95mm, Lead Span 2.4mm, IPC Medium Density)
footprint MF03A_L (SOT23, 3-Leads, Body 2.9x1.3mm, Pitch 0.95mm, Lead Span 2.4mm, IPC High Density)
footprint MF03A_M (SOT23, 3-Leads, Body 2.9x1.3mm, Pitch 0.95mm, Lead Span 2.4mm, IPC Low Density)
pins: 1 K, 2 REF (in), 3 A

## LM431CCZ
designator U?
Adjustable Precision Zener Shunt Regulator; PartNumber: LM431CCZ; Manufacturer: National Semiconductor; CompType: MiscPower; PackageTopMarking: NSXYTT*LM431*CCZ; Published: 4-Dec-2008; DatasheetVersion: Mar-2005; PackageVersion: revG, Sep-2000; PackageReference: Z03A; Publisher: Altium Limited; PackageDescription: TO-92, Molded, 3 Lead; RoHS: O; PinCount: 3; DigiKeyPartNumber: LM431CCZ-ND; Code_JEDEC: TO-226-AA; ComponentLink1Description: LM431 Datasheet; ComponentLink1URL: http://www.national.com/ds/LM/LM431.pdf; ComponentLink2Description: LM431 Web Page; ComponentLink2URL: http://www.national.com/pf/LM/LM431.html; ComponentLink3Description: Z03A Package Page; ComponentLink3URL: http://www.national.com/packaging/folders/z03a.html
footprint Z03A (TO, Flat Index; 3 In-Line, Axial Leads; Body Dia. 5mm; Leads 0.55 x 0.50 mm (max))
pins: 1 REF (in), 2 A, 3 K

## LM431CIM
designator U?
Adjustable Precision Zener Shunt Regulator; PartNumber: LM431CIM; Manufacturer: National Semiconductor; CompType: MiscPower; PackageTopMarking: NSZXTT*431*CIM; PowerWise: N; Published: 4-Dec-2008; DatasheetVersion: Mar-2005; PackageVersion: revL, Sep-2006; PackageReference: M08A; Publisher: Altium Limited; PackageDescription: SOIC Narrow, 4.9 x 3.9 x 1.45mm, 8 Lead, 1.27mm Pitch; RoHS: O; PinCount: 8; DigiKeyPartNumber: LM431CIM-ND; Code_JEDEC: MS-012-AA; Code_IPC: SOIC127P600-8; ComponentLink1Description: LM431 Datasheet; ComponentLink1URL: http://www.national.com/ds/LM/LM431.pdf; ComponentLink2Description: LM431 Web Page; ComponentLink2URL: http://www.national.com/pf/LM/LM431.html; ComponentLink3Description: M08A Package Page; ComponentLink3URL: http://www.national.com/packaging/folders/m08a.html
footprint M08A_N (SOIC, 8-Leads, Body 4.9x3.9mm, Pitch 1.27mm, IPC Medium Density)
footprint M08A_L (SOIC, 8-Leads, Body 4.9x3.9mm, Pitch 1.27mm, IPC High Density)
footprint M08A_M (SOIC, 8-Leads, Body 4.9x3.9mm, Pitch 1.27mm, IPC Low Density)
pins: 1 K, 2 A, 3 A, 4 NC, 5 NC, 6 A, 7 A, 8 REF (in)

## LM431CIM3
designator U?
Adjustable Precision Zener Shunt Regulator; PartNumber: LM431CIM3; Manufacturer: National Semiconductor; CompType: MiscPower; PackageTopMarking: N1A*XTT; PowerWise: N; Published: 4-Dec-2008; DatasheetVersion: Mar-2005; PackageVersion: revB, Mar-2003; PackageReference: MF03A; Publisher: Altium Limited; PackageDescription: Molded SOT-23, .115 x .051 x .037in Body, 3 Lead, .075 in Pitch; RoHS: O; PinCount: 3; DigiKeyPartNumber: LM431CIM3CT-ND; ComponentLink1Description: LM431 Datasheet; ComponentLink1URL: http://www.national.com/ds/LM/LM431.pdf; ComponentLink2Description: LM431 Web Page; ComponentLink2URL: http://www.national.com/pf/LM/LM431.html; ComponentLink3Description: MF03A Package Page; ComponentLink3URL: http://www.national.com/packaging/folders/mf03a.html
footprint MF03A_N (SOT23, 3-Leads, Body 2.9x1.3mm, Pitch 0.95mm, Lead Span 2.4mm, IPC Medium Density)
footprint MF03A_L (SOT23, 3-Leads, Body 2.9x1.3mm, Pitch 0.95mm, Lead Span 2.4mm, IPC High Density)
footprint MF03A_M (SOT23, 3-Leads, Body 2.9x1.3mm, Pitch 0.95mm, Lead Span 2.4mm, IPC Low Density)
pins: 1 K, 2 REF (in), 3 A

## LM431CIZ
designator U?
Adjustable Precision Zener Shunt Regulator; PartNumber: LM431CIZ; Manufacturer: National Semiconductor; CompType: MiscPower; PackageTopMarking: NSXYTT*LM431*CIZ; PowerWise: N; Published: 4-Dec-2008; DatasheetVersion: Mar-2005; PackageVersion: revG, Sep-2000; PackageReference: Z03A; Publisher: Altium Limited; PackageDescription: TO-92, Molded, 3 Lead; RoHS: Y; PinCount: 3; DigiKeyPartNumber: LM431CIZ-ND; Code_JEDEC: TO-226-AA; ComponentLink1Description: LM431 Datasheet; ComponentLink1URL: http://www.national.com/ds/LM/LM431.pdf; ComponentLink2Description: LM431 Web Page; ComponentLink2URL: http://www.national.com/pf/LM/LM431.html; ComponentLink3Description: Z03A Package Page; ComponentLink3URL: http://www.national.com/packaging/folders/z03a.html
footprint Z03A (TO, Flat Index; 3 In-Line, Axial Leads; Body Dia. 5mm; Leads 0.55 x 0.50 mm (max))
pins: 1 REF (in), 2 A, 3 K

## LM628N-6
designator U?
Precision Motion Controller; PartNumber: LM628N-6; Manufacturer: National Semiconductor; CompType: MiscPower; PackageTopMarking: NSUZXYYTTE#*LM628N-6; PowerWise: N; Published: 4-Dec-2008; DatasheetVersion: Jan-2003; PackageVersion: revB, Aug-1993; PackageReference: NA28E; Publisher: Altium Limited; PackageDescription: Molded Dip, 28 Lead, .600 Centers, Substractor Package; RoHS: O; PinCount: 28; DigiKeyPartNumber: LM628N-6-ND; ComponentLink1Description: LM628 Datasheet; ComponentLink1URL: http://www.national.com/ds/LM/LM628.pdf; ComponentLink2Description: LM628 Web Page; ComponentLink2URL: http://www.national.com/pf/LM/LM628.html; ComponentLink3Description: NA28E Package Page; ComponentLink3URL: http://www.national.com/packaging/folders/na28e.html
footprint NA28E (DIP, 28-Leads, Row Spacing 15.24mm, Pitch 2.54mm, Body 36.83x13.72mm)
pins: 1 ~{IN} (in), 2 A (in), 3 B (in), 4 D7 (io), 5 D6 (io), 6 D5 (io), 7 D4 (io), 8 D3 (io), 9 D2 (io), 10 D1 (io), 11 D0 (io), 12 ~{CS} (in), 13 ~{RD} (in), 14 GND (power), 15 ~{WR} (in), 16 ~{PS} (in), 17 HI (out), 18 DAC7 (out), 19 DAC6 (out), 20 DAC5 (out), 21 DAC4 (out), 22 DAC3 (out), 23 DAC2 (out), 24 DAC1 (out), 25 DAC0 (out), 26 CLK (in), 27 ~{RST} (in), 28 VDD (power)

## LM628N-8
designator U?
Precision Motion Controller; PartNumber: LM628N-8; Manufacturer: National Semiconductor; CompType: MiscPower; PackageTopMarking: NSUZXYYTTE#*LM628N-8; PowerWise: N; Published: 4-Dec-2008; DatasheetVersion: Jan-2003; PackageVersion: revB, Aug-1993; PackageReference: NA28E; Publisher: Altium Limited; PackageDescription: Molded Dip, 28 Lead, .600 Centers, Substractor Package; RoHS: O; PinCount: 28; DigiKeyPartNumber: LM628N-8-ND; ComponentLink1Description: LM628 Datasheet; ComponentLink1URL: http://www.national.com/ds/LM/LM628.pdf; ComponentLink2Description: LM628 Web Page; ComponentLink2URL: http://www.national.com/pf/LM/LM628.html; ComponentLink3Description: NA28E Package Page; ComponentLink3URL: http://www.national.com/packaging/folders/na28e.html
footprint NA28E (DIP, 28-Leads, Row Spacing 15.24mm, Pitch 2.54mm, Body 36.83x13.72mm)
pins: 1 ~{IN} (in), 2 A (in), 3 B (in), 4 D7 (io), 5 D6 (io), 6 D5 (io), 7 D4 (io), 8 D3 (io), 9 D2 (io), 10 D1 (io), 11 D0 (io), 12 ~{CS} (in), 13 ~{RD} (in), 14 GND (power), 15 ~{WR} (in), 16 ~{PS} (in), 17 HI (out), 18 DAC7 (out), 19 DAC6 (out), 20 DAC5 (out), 21 DAC4 (out), 22 DAC3 (out), 23 DAC2 (out), 24 DAC1 (out), 25 DAC0 (out), 26 CLK (in), 27 ~{RST} (in), 28 VDD (power)

## LM629M-6
designator U?
Precision Motion Controller; PartNumber: LM629M-6; Manufacturer: National Semiconductor; CompType: MiscPower; PackageTopMarking: NSUZXYTT*LM629M-6; PowerWise: N; Published: 4-Dec-2008; DatasheetVersion: Jan-2003; PackageVersion: revF, Apr-1990; PackageReference: M24B; Publisher: Altium Limited; PackageDescription: Molded Package, S.O., .300in Wide, 24 Lead; RoHS: O; PinCount: 24; DigiKeyPartNumber: LM629M-6-ND; ComponentLink1Description: LM629 Datasheet; ComponentLink1URL: http://www.national.com/ds/LM/LM629.pdf; ComponentLink2Description: LM629 Web Page; ComponentLink2URL: http://www.national.com/pf/LM/LM629.html; ComponentLink3Description: M24B Package Page; ComponentLink3URL: http://www.national.com/packaging/folders/m24b.html
footprint M24B_N (SOIC, 24-Leads, Body 15.4x7.5mm, Pitch 1.27mm, IPC Medium Density)
footprint M24B_L (SOIC, 24-Leads, Body 15.4x7.5mm, Pitch 1.27mm, IPC High Density)
footprint M24B_M (SOIC, 24-Leads, Body 15.4x7.5mm, Pitch 1.27mm, IPC Low Density)
pins: 1 NC, 2 D2 (io), 3 D1 (io), 4 D0 (io), 5 ~{CS} (in), 6 ~{RD} (in), 7 GND (power), 8 ~{WR} (in), 9 ~{PS} (in), 10 HI (out), 11 PWM SIGN (out), 12 NC, 13 PWM MAG (out), 14 CLK (in), 15 ~{RST} (in), 16 VDD (power), 17 ~{IN} (in), 18 A (in), 19 B (in), 20 D7 (io), 21 D6 (io), 22 D5 (io), 23 D4 (io), 24 D3 (io)

## LM629M-8
designator U?
Precision Motion Controller; PartNumber: LM629M-8; Manufacturer: National Semiconductor; CompType: MiscPower; PackageTopMarking: NSUZXYTT*LM629M-8; PowerWise: N; Published: 4-Dec-2008; DatasheetVersion: Jan-2003; PackageVersion: revF, Apr-1990; PackageReference: M24B; Publisher: Altium Limited; PackageDescription: Molded Package, S.O., .300in Wide, 24 Lead; RoHS: O; PinCount: 24; DigiKeyPartNumber: LM629M-8-ND; ComponentLink1Description: LM629 Datasheet; ComponentLink1URL: http://www.national.com/ds/LM/LM629.pdf; ComponentLink2Description: LM629 Web Page; ComponentLink2URL: http://www.national.com/pf/LM/LM629.html; ComponentLink3Description: M24B Package Page; ComponentLink3URL: http://www.national.com/packaging/folders/m24b.html
footprint M24B_N (SOIC, 24-Leads, Body 15.4x7.5mm, Pitch 1.27mm, IPC Medium Density)
footprint M24B_L (SOIC, 24-Leads, Body 15.4x7.5mm, Pitch 1.27mm, IPC High Density)
footprint M24B_M (SOIC, 24-Leads, Body 15.4x7.5mm, Pitch 1.27mm, IPC Low Density)
pins: 1 NC, 2 D2 (io), 3 D1 (io), 4 D0 (io), 5 ~{CS} (in), 6 ~{RD} (in), 7 GND (power), 8 ~{WR} (in), 9 ~{PS} (in), 10 HI (out), 11 PWM SIGN (out), 12 NC, 13 PWM MAG (out), 14 CLK (in), 15 ~{RST} (in), 16 VDD (power), 17 ~{IN} (in), 18 A (in), 19 B (in), 20 D7 (io), 21 D6 (io), 22 D5 (io), 23 D4 (io), 24 D3 (io)

## LM629N-6
designator U?
Precision Motion Controller; PartNumber: LM629N-6; Manufacturer: National Semiconductor; CompType: MiscPower; PackageTopMarking: NSUZXYYTTE#*LM629N-6; PowerWise: N; Published: 4-Dec-2008; DatasheetVersion: Jan-2003; PackageVersion: revB, Aug-1993; PackageReference: NA28E; Publisher: Altium Limited; PackageDescription: Molded Dip, 28 Lead, .600 Centers, Substractor Package; RoHS: O; PinCount: 28; DigiKeyPartNumber: LM629N-6-ND; ComponentLink1Description: LM629 Datasheet; ComponentLink1URL: http://www.national.com/ds/LM/LM629.pdf; ComponentLink2Description: LM629 Web Page; ComponentLink2URL: http://www.national.com/pf/LM/LM629.html; ComponentLink3Description: NA28E Package Page; ComponentLink3URL: http://www.national.com/packaging/folders/na28e.html
footprint NA28E (DIP, 28-Leads, Row Spacing 15.24mm, Pitch 2.54mm, Body 36.83x13.72mm)
pins: 1 ~{IN} (in), 2 A (in), 3 B (in), 4 D7 (io), 5 D6 (io), 6 D5 (io), 7 D4 (io), 8 D3 (io), 9 D2 (io), 10 D1 (io), 11 D0 (io), 12 ~{CS} (in), 13 ~{RD} (in), 14 GND (power), 15 ~{WR} (in), 16 ~{PS} (in), 17 HI (out), 18 PWM SIGN (out), 19 PWM MAG (out), 20 NC, 21 NC, 22 NC, 23 NC, 24 NC, 25 NC, 26 CLK (in), 27 ~{RST} (in), 28 VDD (power)

## LM629N-8
designator U?
Precision Motion Controller; PartNumber: LM629N-8; Manufacturer: National Semiconductor; CompType: MiscPower; PackageTopMarking: NSUZXYYTTE#*LM629N-8; PowerWise: N; Published: 4-Dec-2008; DatasheetVersion: Jan-2003; PackageVersion: revB, Aug-1993; PackageReference: NA28E; Publisher: Altium Limited; PackageDescription: Molded Dip, 28 Lead, .600 Centers, Substractor Package; RoHS: O; PinCount: 28; DigiKeyPartNumber: LM629N-8-ND; ComponentLink1Description: LM629 Datasheet; ComponentLink1URL: http://www.national.com/ds/LM/LM629.pdf; ComponentLink2Description: LM629 Web Page; ComponentLink2URL: http://www.national.com/pf/LM/LM629.html; ComponentLink3Description: NA28E Package Page; ComponentLink3URL: http://www.national.com/packaging/folders/na28e.html
footprint NA28E (DIP, 28-Leads, Row Spacing 15.24mm, Pitch 2.54mm, Body 36.83x13.72mm)
pins: 1 ~{IN} (in), 2 A (in), 3 B (in), 4 D7 (io), 5 D6 (io), 6 D5 (io), 7 D4 (io), 8 D3 (io), 9 D2 (io), 10 D1 (io), 11 D0 (io), 12 ~{CS} (in), 13 ~{RD} (in), 14 GND (power), 15 ~{WR} (in), 16 ~{PS} (in), 17 HI (out), 18 PWM SIGN (out), 19 PWM MAG (out), 20 NC, 21 NC, 22 NC, 23 NC, 24 NC, 25 NC, 26 CLK (in), 27 ~{RST} (in), 28 VDD (power)

## LM809M3-2.45
designator U?
3-Pin Microprocessor Reset Circuit, 2.45V Threshold; PartNumber: LM809M3-2.45; Manufacturer: National Semiconductor; CompType: MiscPower; PackageTopMarking: SFB*XTT; PowerWise: N; Published: 29-May-2009; DatasheetVersion: Sep-2002; PackageVersion: revB, Mar-2003; PackageReference: MF03A; Publisher: Altium Limited; PackageDescription: Molded SOT-23, .115 x .051 x .037in Body, 3 Lead, .075 in Pitch; RoHS: O; PinCount: 3; DigiKeyPartNumber: LM809M3-2.45-ND; ComponentLink1Description: LM809 Datasheet; ComponentLink1URL: http://www.national.com/ds/LM/LM809.pdf; ComponentLink2Description: LM809 Web Page; ComponentLink2URL: http://www.national.com/mpf/LM/LM809.html; ComponentLink3Description: MF03A Package Page; ComponentLink3URL: http://www.national.com/packaging/folders/mf03a.html
footprint MF03A_N (SOT23, 3-Leads, Body 2.9x1.3mm, Pitch 0.95mm, Lead Span 2.4mm, IPC Medium Density)
footprint MF03A_L (SOT23, 3-Leads, Body 2.9x1.3mm, Pitch 0.95mm, Lead Span 2.4mm, IPC High Density)
footprint MF03A_M (SOT23, 3-Leads, Body 2.9x1.3mm, Pitch 0.95mm, Lead Span 2.4mm, IPC Low Density)
pins: 1 GND (power), 2 ~{RST} (out), 3 VCC (power)

## LM809M3-2.63
designator U?
3-Pin Microprocessor Reset Circuit, 2.63V Threshold; PartNumber: LM809M3-2.63; Manufacturer: National Semiconductor; CompType: MiscPower; PackageTopMarking: S3B*XTT; PowerWise: N; Published: 4-Dec-2008; DatasheetVersion: Sep-2002; PackageVersion: revB, Mar-2003; PackageReference: MF03A; Publisher: Altium Limited; PackageDescription: Molded SOT-23, .115 x .051 x .037in Body, 3 Lead, .075 in Pitch; RoHS: Y; PinCount: 3; DigiKeyPartNumber: LM809M3-2.63CT-ND; ComponentLink1Description: LM809 Datasheet; ComponentLink1URL: http://www.national.com/ds/LM/LM809.pdf; ComponentLink2Description: LM809 Web Page; ComponentLink2URL: http://www.national.com/mpf/LM/LM809.html; ComponentLink3Description: MF03A Package Page; ComponentLink3URL: http://www.national.com/packaging/folders/mf03a.html
footprint MF03A_N (SOT23, 3-Leads, Body 2.9x1.3mm, Pitch 0.95mm, Lead Span 2.4mm, IPC Medium Density)
footprint MF03A_L (SOT23, 3-Leads, Body 2.9x1.3mm, Pitch 0.95mm, Lead Span 2.4mm, IPC High Density)
footprint MF03A_M (SOT23, 3-Leads, Body 2.9x1.3mm, Pitch 0.95mm, Lead Span 2.4mm, IPC Low Density)
pins: 1 GND (power), 2 ~{RST} (out), 3 VCC (power)